# Altium schematic symbol library CAP,Cer,15nF,50VDC,X7R,0805.Schlib: 1 symbol
Pins are listed as number, name and electrical type; pins without a type are passive.

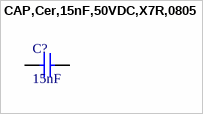
[diagram p0: symbol CAP,Cer,15nF,50VDC,X7R,0805]

## CAP,Cer,15nF,50VDC,X7R,0805
designator C?, comment 15nF
0.015 µF ±10% 50V Ceramic Capacitor X7R 0805 (2012 Metric)
pins: 1, 2